# Altium schematic symbol library LPC54608J512ET180.SchLib: 1 symbol
Pins are listed as number, name and electrical type; pins without a type are passive.

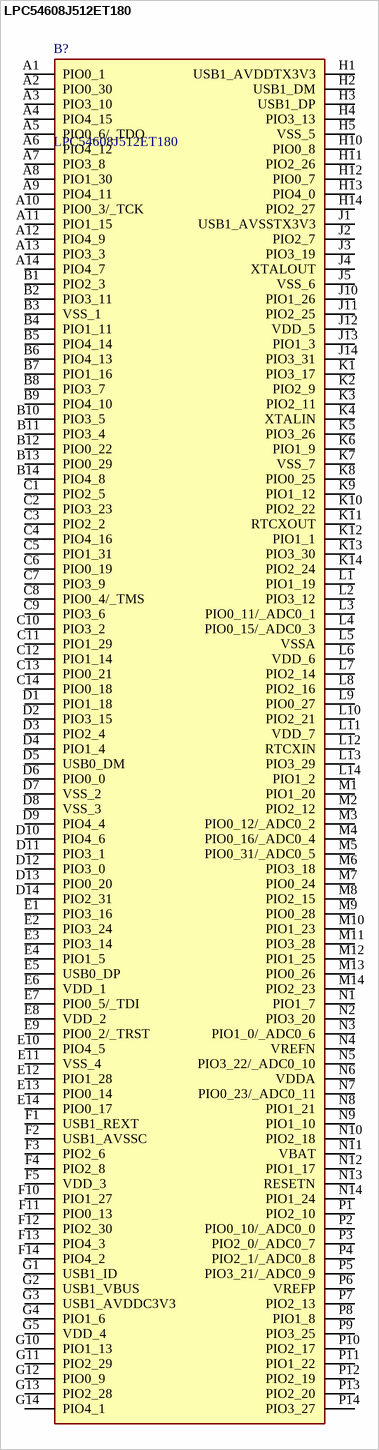
[diagram p0: symbol LPC54608J512ET180]

## LPC54608J512ET180
designator B?
ARM Microcontrollers - MCU LPC54608J512ET180/TFBGA180///STANDARD MARKING * TR; Manufacturer_Name: NXP; Geometry.Height: 1.2mm; Manufacturer_Part_Number: LPC54608J512ET180; Mouser Part Number: N/A; Mouser Price/Stock: https://www.mouser.co.uk/ProductDetail/NXP-Semiconductors/LPC54608J512ET180?qs=fAHHVMwC%252BbiwaGA98nObDg%3D%3D; Arrow Part Number: *; Arrow Price/Stock: *; Datasheet Link: https://www.nxp.com.cn/docs/en/data-sheet/LPC546XX.pdf
footprint BGA180C80P14X14_1200X1200X120
pins: A1 PIO0_1, A2 PIO0_30, A3 PIO3_10, A4 PIO4_15, A5 PIO0_6/_TDO, A6 PIO4_12, A7 PIO3_8, A8 PIO1_30, A9 PIO4_11, A10 PIO0_3/_TCK, A11 PIO1_15, A12 PIO4_9, A13 PIO3_3, A14 PIO4_7, B1 PIO2_3, B2 PIO3_11, B3 VSS_1, B4 PIO1_11, B5 PIO4_14, B6 PIO4_13, B7 PIO1_16, B8 PIO3_7, B9 PIO4_10, B10 PIO3_5, B11 PIO3_4, B12 PIO0_22, B13 PIO0_29, B14 PIO4_8, C1 PIO2_5, C2 PIO3_23, C3 PIO2_2, C4 PIO4_16, C5 PIO1_31, C6 PIO0_19, C7 PIO3_9, C8 PIO0_4/_TMS, C9 PIO3_6, C10 PIO3_2, C11 PIO1_29, C12 PIO1_14, C13 PIO0_21, C14 PIO0_18, D1 PIO1_18, D2 PIO3_15, D3 PIO2_4, D4 PIO1_4, D5 USB0_DM, D6 PIO0_0, D7 VSS_2, D8 VSS_3, D9 PIO4_4, D10 PIO4_6, D11 PIO3_1, D12 PIO3_0, D13 PIO0_20, D14 PIO2_31, E1 PIO3_16, E2 PIO3_24, E3 PIO3_14, E4 PIO1_5, E5 USB0_DP, E6 VDD_1, E7 PIO0_5/_TDI, E8 VDD_2, E9 PIO0_2/_TRST, E10 PIO4_5, E11 VSS_4, E12 PIO1_28, E13 PIO0_14, E14 PIO0_17, F1 USB1_REXT, F2 USB1_AVSSC, F3 PIO2_6, F4 PIO2_8, F5 VDD_3, F10 PIO1_27, F11 PIO0_13, F12 PIO2_30, F13 PIO4_3, F14 PIO4_2, G1 USB1_ID, G2 USB1_VBUS, G3 USB1_AVDDC3V3, G4 PIO1_6, G5 VDD_4, G10 PIO1_13, G11 PIO2_29, G12 PIO0_9, G13 PIO2_28, G14 PIO4_1, H1 USB1_AVDDTX3V3, H2 USB1_DM, H3 USB1_DP, H4 PIO3_13, H5 VSS_5, H10 PIO0_8, H11 PIO2_26, H12 PIO0_7, H13 PIO4_0, H14 PIO2_27, J1 USB1_AVSSTX3V3, J2 PIO2_7, J3 PIO3_19, J4 XTALOUT, J5 VSS_6, J10 PIO1_26, J11 PIO2_25, J12 VDD_5, J13 PIO1_3, J14 PIO3_31, K1 PIO3_17, K2 PIO2_9, K3 PIO2_11, K4 XTALIN, K5 PIO3_26, K6 PIO1_9, K7 VSS_7, K8 PIO0_25, K9 PIO1_12, K10 PIO2_22, K11 RTCXOUT, K12 PIO1_1, K13 PIO3_30, K14 PIO2_24, L1 PIO1_19, L2 PIO3_12, L3 PIO0_11/_ADC0_1, L4 PIO0_15/_ADC0_3, L5 VSSA, L6 VDD_6, L7 PIO2_14, L8 PIO2_16, L9 PIO0_27, L10 PIO2_21, L11 VDD_7, L12 RTCXIN, L13 PIO3_29, L14 PIO1_2, M1 PIO1_20, M2 PIO2_12, M3 PIO0_12/_ADC0_2, M4 PIO0_16/_ADC0_4, M5 PIO0_31/_ADC0_5, M6 PIO3_18, M7 PIO0_24, M8 PIO2_15, M9 PIO0_28, M10 PIO1_23, M11 PIO3_28, M12 PIO1_25, M13 PIO0_26, M14 PIO2_23, N1 PIO1_7, N2 PIO3_20, N3 PIO1_0/_ADC0_6, N4 VREFN, N5 PIO3_22/_ADC0_10, N6 VDDA, N7 PIO0_23/_ADC0_11, N8 PIO1_21, N9 PIO1_10, N10 PIO2_18, N11 VBAT, N12 PIO1_17, N13 RESETN, N14 PIO1_24, P1 PIO2_10, P2 PIO0_10/_ADC0_0, P3 PIO2_0/_ADC0_7, P4 PIO2_1/_ADC0_8, P5 PIO3_21/_ADC0_9, P6 VREFP, P7 PIO2_13, P8 PIO1_8, P9 PIO3_25, P10 PIO2_17, P11 PIO1_22, P12 PIO2_19, P13 PIO2_20, P14 PIO3_27